# Altium schematic symbol library WLS.SchLib: 12 symbols
Pins are listed as number, name and electrical type; pins without a type are passive.

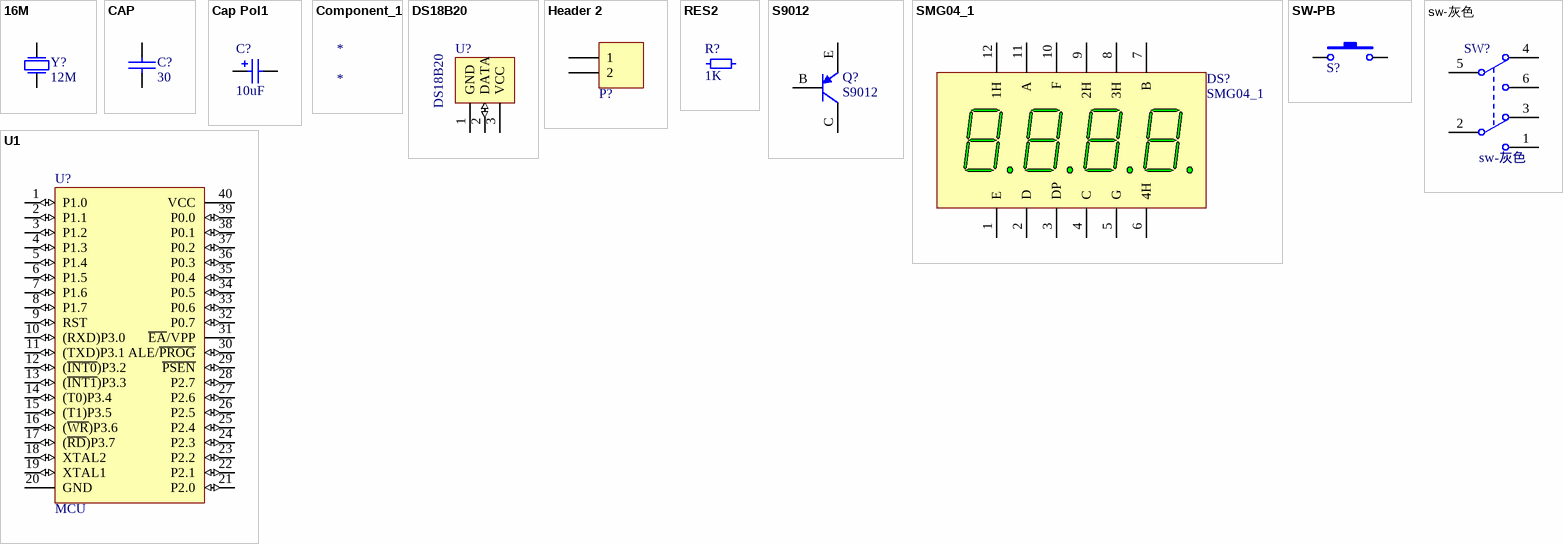
[diagram p0: symbols 16M to U1]

## 16M
designator Y?, comment 12M
Crystal Oscillator
footprint JZXTAL1 (直插晶振)
pins: 1 P1, 2 P2
2 alternate drawings of the same symbol

## CAP
designator C?, comment 30
电容
footprint CCP-4X5 (瓷片电容 - 直插)
pins: 1, 2

## Cap Pol1
designator C?, comment 10uF
Polarized Capacitor (Radial); Published: 8-Jun-2000; LatestRevisionDate: 17-Jul-2002; LatestRevisionNote: Re-released for DXP Platform.; PackageReference: RB7.6-15; Publisher: Altium Limited
simulation model CAP (Capacitor)
signal-integrity model Cap Pol
footprint CRB-2.54/5MM (电解电容10uf 脚间距2.54/mm外直径5mm)
pins: 1, 2
1 alternate drawing of the same symbol

## Component_1
designator *

## DS18B20
designator U?
footprint DS18B20
pins: 1 GND (power), 2 DATA (io), 3 VCC (power)

## Header 2
designator P?  (value not drawn)
Header, 2-Pin; LatestRevisionDate: 17-Jul-2002; LatestRevisionNote: Re-released for DXP Platform.; Publisher: Altium Limited
footprint DC002 (电源插座 - 1.3mm*3.5mm,插头内径1.3外径3.5)
pins: 1, 2

## RES2
designator R?, comment 1K
footprint RAXIAL-0.4 (色环电阻 - 2/1W)
pins: 1, 2
2 alternate drawings of the same symbol

## S9012
designator Q?
PNP 三极管; Published: 8-Jun-2000; LatestRevisionDate: 29-May-2009; LatestRevisionNote: IPC-7351 Footprint Added.; PackageVersion: Aug-1999; PackageReference: SOT-23B; Publisher: Altium Limited; PackageDescription: 3-Pin SOT-23 Package 0.95 mm Pitch, 2.4 mm Lead Span
simulation model PNP
signal-integrity model PNP ([Unknown model type, plugin missing])
footprint TO-92 (三极管S9012,)
pins: B, C, E

## SMG04_1
designator DS?
footprint SMG04_1 (3.6寸 共阳四位数码管)
pins: 1 E, 2 D, 3 DP, 4 C, 5 G, 6 4H, 7 B, 8 3H, 9 2H, 10 F, 11 A, 12 1H

## SW-PB
designator S?  (value not drawn)
Switch; Published: 24-Mar-1999; LatestRevisionDate: 17-Jul-2002; LatestRevisionNote: Re-released for DXP Platform.; PackageReference: SPST-2; Publisher: Altium Limited
footprint SW6*6*5 (按键6X6X5MM)
pins: 1, 2, 3, 4

## sw-灰色
designator SW?
footprint SW8*8 (8*8mm自锁按键)
pins: 1 NO2, 2 COMMON2, 3 NC2, 4 NC1, 5 COMMON1, 6 NO1

## U1
designator U?, comment MCU
footprint DIP40 (IC座 - 40P)
pins: 1 P1.0 (io), 2 P1.1 (io), 3 P1.2 (io), 4 P1.3 (io), 5 P1.4 (io), 6 P1.5 (io), 7 P1.6 (io), 8 P1.7 (io), 9 RST (io), 10 (RXD)P3.0 (io), 11 (TXD)P3.1 (io), 12 (~{INT0})P3.2 (io), 13 (~{INT1})P3.3 (io), 14 (T0)P3.4 (io), 15 (T1)P3.5 (io), 16 (~{WR})P3.6 (io), 17 (~{RD})P3.7 (io), 18 XTAL2 (io), 19 XTAL1 (io), 20 GND (power), 21 P2.0 (io), 22 P2.1 (io), 23 P2.2 (io), 24 P2.3 (io), 25 P2.4 (io), 26 P2.5 (io), 27 P2.6 (io), 28 P2.7 (io), 29 ~{PSEN} (io), 30 ALE/~{PROG} (io), 31 ~{EA}/VPP (power), 32 P0.7 (io), 33 P0.6 (io), 34 P0.5 (io), 35 P0.4 (io), 36 P0.3 (io), 37 P0.2 (io), 38 P0.1 (io), 39 P0.0 (io), 40 VCC (power)